# Altium schematic symbol library C210 Rev_B_220601.SCHLIB: 92 symbols (part 2 of 2)
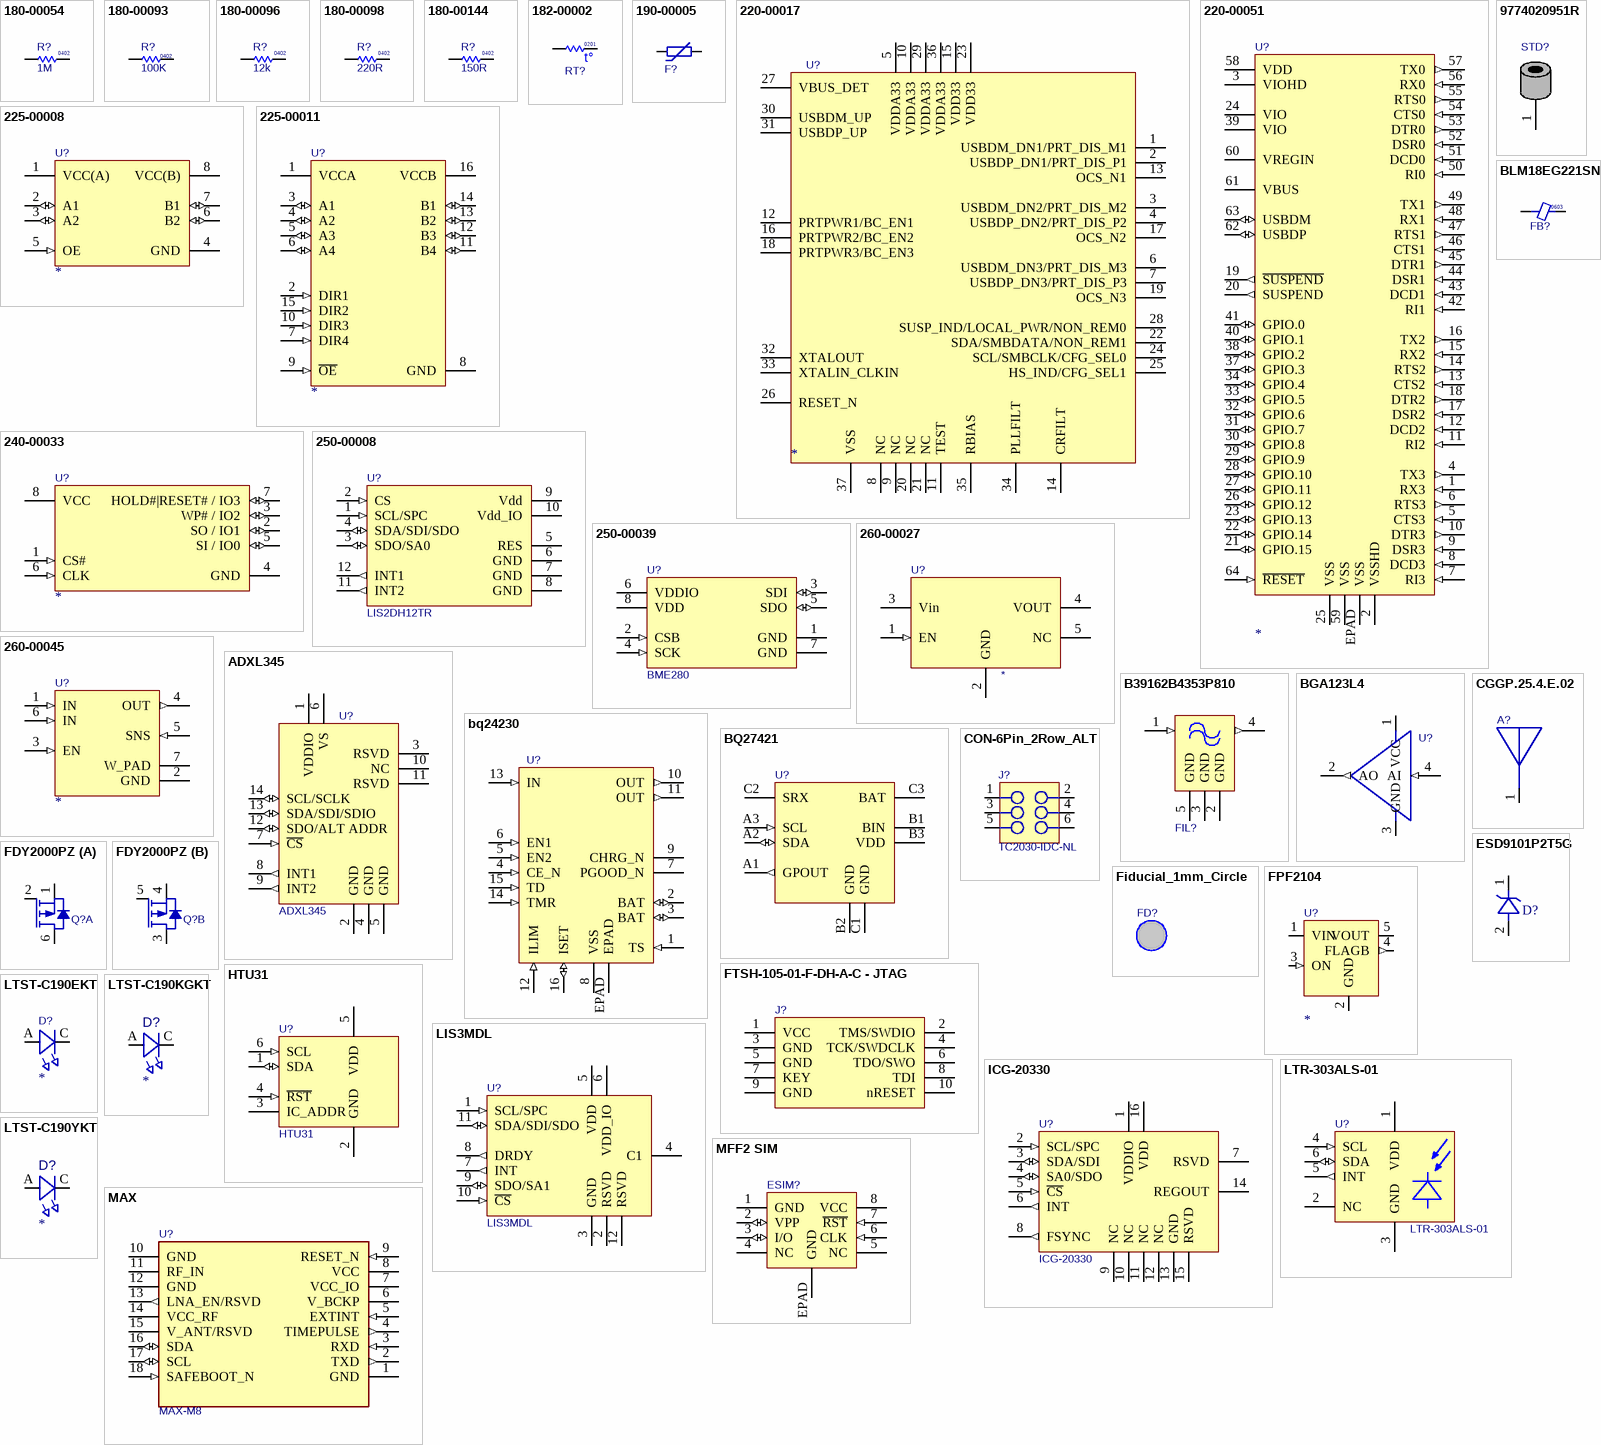
[diagram p3: symbols 180-00054 to MFF2 SIM]

## bq24230
designator U?  (value not drawn)
BAT CHARGER, Li-ION, SMT, USB, PWR PATH, 500mA, 4.4V, 3mmx3mm QFN-16; Manufacturer 1: Texas Instruments; Body Size: 3.3mm x 3.3mm; Item Phase: Unreleased; MFG Package: VQFN-16; SMT Pitch: 0.5mm; Use in new designs: Yes; Voltage: 5-6.5V; UBX Code: None; Part Number: bq24230; Manufacturer Part Number 1: bq24230; Supplier 1: Digi-key; Supplier Part Number 1: 296-23937-2-ND; Height: 1mm; Max Operating Temp: 85; Min Operating Temp: -40; Pins: 16; Revision: None; Size: Other; Manufacturer 2: None; Manufacturer Part Number 2: None; Supplier 2: None; Supplier Part Number 2: None
footprint QFN0.5P3x3-16Pin_W-Pad (Quad Flat No-Lead, 0.5mm Pitch, 16 Contact, Exposed Pad, 3mmX3mm)
pins: 1 TS (in) "ExternalNTCThermistorInput.Connectthe TS inputto the NTCthermistorin the batterypack.TS monitorsa 10-kΩNTCthermistor.For applicationsthat do not utilizethe TS function,connecta 10-kΩfixedresistorfromTS toVSSto maintaina validvoltagelevelon TS.", 2 BAT (io) "ChargerPowerStageOutputand BatteryVoltageSenseInput.ConnectBATto the positiveterminalof thebattery.BypassBATto VSSwith a 4.7-μF to 47-μF ceramiccapacitor.", 3 BAT (io) "ChargerPowerStageOutputand BatteryVoltageSenseInput.ConnectBATto the positiveterminalof thebattery.BypassBATto VSSwith a 4.7-μF to 47-μF ceramiccapacitor.", 4 CE_N (in) "ChargeEnableActive-LowInput.ConnectCE to a high logiclevelto disablebatterycharging.OUTis activeandbatterysupplementmodeis still available.ConnectCE to a low logiclevelto enablethe batterycharger.CE isinternallypulleddownwith ~285kΩ. Do not leaveCE unconnectedto ensureproperoperation.", 5 EN2 (in) "InputCurrentLimitConfigurationInputs.Use EN1and EN2controlthe maximuminputcurrentand enableUSBcompliance.See Table1 for the descriptionof the operationstates.EN1and EN2are internallypulleddownwith~285kΩ. Do not leaveEN1or EN2unconnectedto ensureproperoperation.", 6 EN1 (in) "InputCurrentLimitConfigurationInputs.Use EN1and EN2controlthe maximuminputcurrentand enableUSBcompliance.See Table1 for the descriptionof the operationstates.EN1and EN2are internallypulleddownwith~285kΩ. Do not leaveEN1or EN2unconnectedto ensureproperoperation.", 7 PGOOD_N (oc) "Open-drainPowerGoodStatusIndicationOutput.PGOODpullsto VSSwhena validinputsourceis detected.PGOODis high-impedancewhenthe inputpoweris not withinspecifiedlimits.ConnectPGOODto the desiredlogicvoltagerail usinga 1-kΩ– 100-kΩresistor,or use with an LEDfor visualindication.", 8 VSS (power) "Ground.Connectto the thermalpad and to the groundrail of the circuit.", 9 CHRG_N (oc) "Open-DrainChargingStatusIndicationOutput.CHGpullsto VSSwhenthe batteryis charging.CHGis highimpedancewhenchargingis completeand whenchargeris disabled.", 10 OUT (out) "SystemSupplyOutput.OUTprovidesa regulatedoutputwhenthe inputis belowthe OVPthresholdand abovethe regulationvoltage.Whenthe inputis out of the operationrange,OUTis connectedto VBAT. ConnectOUTtothe systemload.BypassOUTto VSSwith a 4.7-μF to 47-μF ceramiccapacitor.", 11 OUT (out) "SystemSupplyOutput.OUTprovidesa regulatedoutputwhenthe inputis belowthe OVPthresholdand abovethe regulationvoltage.Whenthe inputis out of the operationrange,OUTis connectedto VBAT. ConnectOUTtothe systemload.BypassOUTto VSSwith a 4.7-μF to 47-μF ceramiccapacitor.", 12 ILIM (in) "AdjustableCurrentLimitProgrammingInput.Connecta 3.1-kΩto 7.8-kΩresistorfromILIMto VSSto programthemaximuminputcurrent(EN2=1,EN1=0).The inputcurrentincludesthe systemload and the batterychargecurrent.LeavingILIMunconnecteddisablesall charging.In USB100/500mode(EN2= 0, EN1=0/1),ILIMcan beleft floating.", 13 IN (in) "InputPowerConnection.ConnectIN to the connectedto externalDC supply(AC adapteror USBport).The inputoperatingrangeis 4.35V to 6.6 V. The inputcan acceptvoltagesup to 26 V withoutdamagebut operationissuspended.Connectbypasscapacitor1μF to 10μF to VSS", 14 TMR (in) "TimerProgrammingInput.TMRcontrolsthe prechargeand fast-chargesafetytimers.ConnectTMRto VSStodisableall safetytimers.Connecta 18-kΩto 72-kΩresistorbetweenTMRand VSSto programthe timersadesiredlength.LeaveTMRunconnectedto set the timersto the 5-hourfast chargeand 30-minuteprechargedefaulttimervalues.", 15 TD (in) "TerminationDsableInput.ConnectTD high to disablechargertermination.ConnectTD to VSSto enablechargertermination.TD is checkedduringstart-uponly and cannotbe changedduringoperation.See the TD sectioninthis datasheetfor a descriptionof the behaviorwhenterminationis disabled.TD is internallypulleddownto VSSwith ~285kΩ. Do not leaveTD unconnectedto ensureproperoperation.", 16 ISET (io) "Fast-ChargeCurrentProgrammingInput.Connecta 1.8-kΩto 36-kΩresistorfromISETto VSSto programthefast-chargecurrentlevel.Chargingis disabledif ISETis left unconnected.Whilecharging,the voltageat ISETreflectsthe actualchargingcurrentand can be usedto monitorchargecurrent.See theChargeCurrentTranslatorsectionfor moredetails.", EPAD (power) "SystemSupplyOutput.OUTprovidesa regulatedoutputwhenthe inputis belowthe OVPthresholdand abovethe regulationvoltage.Whenthe inputis out of the operationrange,OUTis connectedto VBAT. ConnectOUTtothe systemload.BypassOUTto VSSwith a 4.7-μF to 47-μF ceramiccapacitor."

## BQ27421
designator U?
IC, SMT, BATTERY GAUGE, INGLE CELL Li-ION, COULOMB COUNTER, DSBGA-9 1.6mmX1.6mm; Part Number: BQ27421; Manufacturer 1: Texas Instruments; Part Name: B39162B4353P810; Body Size: 1.4mm x 1.1mm; Current: None; Item Phase: In Production; MFG Package: QCS5P; Use in new designs: Yes; Manufacturer Part Number 1: BQ27421; Height: 0.45mm; Max Operating Temp: 85; Min Operating Temp: -40; Pins: 5; Revision: 0A; Voltage: N/A; UBX Code: None
footprint BQ27421 (9-DSBGA, 9 pin Texas Instruments BQ27421 Battery Gauge, .5mm pitch, 1.6mmX1.6mm)
pins: A1 GPOUT (out) "General Purpose Open Collector Output", A2 SDA (io) "I2C Data Signal", A3 SCL (in) "I2C Clock Signal", B1 BIN (power) "Battery Insertion Detection Input", B2 GND (power) "Ground", B3 VDD (power) "1.8V LDO Output, Decouple with 1uF, Do Not Connect To External Circuit", C1 GND (power) "Ground", C2 SRX "Current Sense Input Connected to VSYS", C3 BAT (power) "LDO Input and Connection To Battery, Decouple with 1uF"

## CGGP.25.4.E.02
designator A?  (value not drawn)
ANT, THROUGH-HOLE, PATCH, GNSS, BEIDOU, GLONASS, GPS, 5dBi, 25MMx35MMx4MM; Manufacturer 1: Taoglas; Body Size: 25mm x 25mm; Item Phase: Unreleased; MFG Package: Custom; Use in new designs: Yes; UBX Code: None; Part Number: CGGP.25.4.E.02; Manufacturer Part Number 1: CGGP.25.4.E.02; Supplier 1: Digi-key; Supplier Part Number 1: 931-1472-ND; Height: 4mm; Max Operating Temp: 125; Min Operating Temp: -55; Pins: 1; Revision: None; Size: Other; SMT Pitch: N/A; Voltage: N/A; Manufacturer 2: None; Manufacturer Part Number 2: None; Supplier 2: None; Supplier Part Number 2: None
footprint CGGP.25.4.E.02 (Antenna, Patch, Through Hole, Beidou, Glonass, GPS,  5dBi, 25x25x4mm)
pins: 1 "Feed"

## CON-6Pin_2Row_ALT
designator J?, comment Manufacturer P/N: TC2030-IDC-NL  (hidden comment: TC2030-IDC-NLDNP)  (no BOM)
CON PADS FOR CBL PLUG-OF-NAILS 6-PIN NO LEGS; Manufacturer: TAG Connect; Added By: emoo; Part Number: TC2030-IDC-NL; Size: 3.81mm x 7.62mm; Height: 0; DNP: DNP; Added Date: 12/3/2015
footprint TC2030-IDC-NL (CON PADS FOR CBL PLUG-OF-NAILS 6-PIN NO LEGS)
footprint TC2030-IDC-NL No Hole (CON PADS FOR CBL PLUG-OF-NAILS 6-PIN NO LEGS)
pins: 1, 2, 3, 4, 5, 6

## ESD9101P2T5G
designator D?
Diode, TVS, SMT, ESD9101P2T5G, 3.3V, 0.5pF, SOD-923; Manufacturer 1: ON Semiconductor; Part Name: Diode TVS 3.3V SOD-923; Body Size: 0.8mm x 0.6mm; Current: None; Item Phase: In Production; Use in new designs: Yes; Manufacturer Part Number 1: ESD9101P2T5G; Height: 0.4mm; MFG Package: SOD-923; Max Operating Temp: 150; Min Operating Temp: -55; Pins: 2; Revision: 0A; Voltage: 3.3V; UBX Code: None
footprint SOD-923_2 (SOD-923, 2-Leads, Body 1.25x2.50mm, IPC High Density,)
pins: 1, 2

## FDY2000PZ
designator Q?
MOSFET DUAL P-CH 20V SOT-563, -350mA; Part Number: FDY2000PZ; Manufacturer 1: ON Semiconductor; Body Size: 1.6mmx1.6mm; Item Phase: In Production; Transistor Type: Multiple; Thermal Pad: No; Use in new designs: Yes; UBX Code: None; Manufacturer Part Number 1: FDY2000PZ; Supplier 1: Digi-Key; Supplier Part Number 1: 2156-FDY2000PZ-ND; Current: -350mA; Height: 0.6mm; MFG Package: SOT-563; Max Operating Temp: 150; Min Operating Temp: -55; Part Name: MOSFET DUAL P-CH 20V SOT-563; Pins: 6; Revision: 0A; Voltage: 20V; Manufacturer 2: None; Manufacturer Part Number 2: None; Supplier 2: None; Supplier Part Number 2: None
footprint FDY2000PZ (Mosfet Array 2 P-Channel (Dual) 20V 350mA 446mW Surface Mount SOT-563F)
part A pins: 1 S1, 2 G1, 6 D1
part B pins: 3 D2, 4 S2, 5 G2

## Fiducial_1mm_Circle
designator FD?, comment Fiducial_1mmDNP  (value not drawn)  (no BOM)
1mm Fiducial Target; Added By: EMOO; Part Number: Fiducial_1mm; Height: 0; DNP: DNP; Added Date: 12/12/2020
footprint Fiducial 1mm - Circle (1mm Fiducial Mark)

## FPF2104
designator U?
Load Switch, 400mA, 1.8-5.5V, Active High Enable, SOT-23-5; Manufacturer 1: onsemi; Manufacturer Part Number 1: FPF2104; Current: None; Item Phase: In Production; Use in new designs: Yes; Voltage: 5.5V; Manufacturer 2: None; Manufacturer Part Number 2: None; Supplier 2: None; Supplier Part Number 2: None; Body Size: SOT-23-5; Height: 1.2mm; MFG Package: SOT-23-5; Max Operating Temp: 85; Min Operating Temp: -40; Pins: 5; Revision: 0A; UBX Code: None; Manufacturer P/N: *
footprint SOT-23-5_2 (SOT-23-5, 1.625mm x 2.9mm)
pins: 1 VIN (power) "Supply Input: Input to the power switch and the supply voltage for the I", 2 GND (power) "Ground", 3 ON (in) "ON Control Input", 4 FLAGB (out) "Fault Output: Active LO, open drain output which indicates an over current supply,under voltage or over temperature stat", 5 VOUT (power) "Switch Output: Output of the power switch"

## FTSH-105-01-F-DH-A-C - JTAG
designator J?  (value not drawn)
Header 0.05" 10Pin 2Row SMD, RA, Black; Part Name: CON HDR 0.05" 10Pin 2Row RA SMD Black; Part_Type: Connector; Manufacturer: Samtec; Item_Phase: Pre-Production; Component Mounting Type: SMT; Keyed: Yes; Locking: No; Pin Pitch: 0.050"; Rows: 2; Part Number: FTSH-105-01-F-DH-A-C - JTAG; Revision: 1; Manufacturer P/N: FTSH-105-01-F-DH-A-C; Supplier 1: Digi-Key; Supplier Part Number 1: SAM13925TR-ND; Color: Black; Connector Type: Header; Height: 3.96mm; Length: 12.75mm; Pins: 10; Use in new designs: Yes; Width: 6.35
footprint FTSH-105-01-F-DH-A-C (CONN HEADER SMD R/A 10POS 1.27MM)
pins: 1 VCC, 2 TMS/SWDIO, 3 GND, 4 TCK/SWDCLK, 5 GND, 6 TDO/SWO, 7 KEY, 8 TDI, 9 GND, 10 nRESET

## HTU31
designator U?  Manufacturer Part Number 1: HTU31
SENSOR, Humidity, I2C, SMT, DFN-6 2.5mmX2.5mm; Manufacturer 1: TE Connectivity; Part Name: B39162B4353P810; Body Size: 1.4mm x 1.1mm; Current: None; Item Phase: In Production; MFG Package: QCS5P; Use in new designs: Yes; Part Number: HTU31; Height: 0.45mm; Max Operating Temp: 85; Min Operating Temp: -40; Pins: 5; Revision: 0A; Voltage: N/A; UBX Code: None
footprint HTU31 (6-DFN w/ Exposed Pad, 6 pin TE-Connectivity Humidity Sensor, .65mm pitch, 2.5mmX2.5mm)
pins: 1 SDA (io) "I2C Data Signal", 2 GND (power) "Ground", 3 IC_ADDR "Address Selection", 4 ~{RST} (in) "Active Low Reset Input", 5 VDD (power) "Power Supply", 6 SCL (in) "I2C Clock Signal"

## ICG-20330
designator U?  Manufacturer Part Number 1: ICG-20330
SENSOR, Gyroscope, I2C, 3-AXIS, 1.7-3.45V, SMT, LGA-16, 3mmX3mm; Manufacturer 1: TDK InvenSense; Part Name: LIS3MDL; Body Size: 2mm x 2mm; Current: None; Item Phase: In Production; MFG Package: LGA-12; Use in new designs: Yes; Voltage: 1.9-3.6V; Part Number: ICG-20330; Height: 1mm; Max Operating Temp: 85; Min Operating Temp: -40; Pins: 12; Revision: 0A; UBX Code: None
footprint ICG-20330 (LGA 0.5mm Pitch, 3x3, 16 Pin, 3.0mm x 3.0mm)
pins: 1 VDDIO (power) "Digital I/O supply voltage", 2 SCL/SPC (in) "I2C serial clock (SCL); SPI serial clock (SPC)", 3 SDA/SDI (io) "I2C serial data (SDA); SPI serial data input (SDI)", 4 SA0/SDO (io) "I2C slave address LSB (SA0); SPI serial data output (SDO)", 5 ~{CS} (in) "Chip select (0 = SPI mode; 1 = I2C mode)", 6 INT (out) "Interrupt digital output (totem pole or open-drain)", 7 RSVD "Reserved. Do Not Connect.", 8 FSYNC (out) "Synchronization digital input (optional).  Connect to GND if unused.", 9 NC "Connect to GND or do not connect", 10 NC "Connect to GND or do not connect", 11 NC "Connect to GND or do not connect", 12 NC "Connect to GND or do not connect", 13 GND (power) "Connect to GND", 14 REGOUT "Regulator filter capacitor connection", 15 RSVD "Reserved. Connect to GND", 16 VDD (power) "Power Supply"

## LIS3MDL
designator U?  Manufacturer Part Number 1: LIS3MDL
SENSOR, MAGNETOMETER, I2C, 3-AXIS, 1.9-3.6V, SMT, LGA-12, 2mmX2mm; Manufacturer 1: ST Micro; Current: None; Item Phase: In Production; Use in new designs: Yes; Part Number: LIS3MDL; Body Size: 2mm x 2mm; Height: 1mm; MFG Package: LGA-12; Max Operating Temp: 85; Min Operating Temp: -40; Part Name: LIS3MDL; Pins: 12; Revision: 0A; Voltage: 1.9-3.6V; UBX Code: None
footprint LIS3MDL (LGA 0.5mm Pitch, 4x4 w/shared corners, 12 Pin, 2.0mm x 2.0mm)
pins: 1 SCL/SPC (in) "Serial Clock Input", 2 RSVD "Reserved, Connect to Ground", 3 GND (power), 4 C1 "Connect to 100nF capacitor", 5 VDD (power) "Power Supply In", 6 VDD_IO (power) "Power Supply for I/O", 7 INT (out) "Interrupt Output", 8 DRDY (out) "Data Ready Output", 9 SDO/SA1 (io) "SPI serial data output (SDO)I2C less significant bit of the device address (SA1", 10 ~{CS} (in) "Chip Select", 11 SDA/SDI/SDO (io) "Serial Data", 12 RSVD "Reserved, Connect to Ground"

## LTR-303ALS-01
designator U?  Manufacturer Part Number 1: LTR-303ALS-01
SENSOR, AMBIENT LIGHT, I2C, SMT, GNSS, DFN-6 2mmX2mm; Manufacturer 1: Lite-On; Part Name: B39162B4353P810; Body Size: 1.4mm x 1.1mm; Current: None; Item Phase: In Production; MFG Package: QCS5P; Use in new designs: Yes; Part Number: LTR-303ALS-01; Height: 0.45mm; Max Operating Temp: 85; Min Operating Temp: -40; Pins: 5; Revision: 0A; Voltage: N/A; UBX Code: None
footprint LTR-303ALS-01 (6-VFDFN, 6 pin Lite-ON Light Sensor, .65mm pitch, 2mmX2mm)
pins: 1 VDD (power) "Power Supply", 2 NC "No Connection", 3 GND (power) "Ground", 4 SCL (in) "I2C Clock Signal", 5 INT (out) "Open Drain Interrupt Output", 6 SDA (io) "I2C Data Signal"

## LTST-C190EKT
designator D?
DIODE, LED, SMT, Red, CLEAR LENS, 2.0V 10mA, 0603; Part Number: LTST-C190EKT; Manufacturer 1: Lite-On Inc; Part Name: LED Red SMT 0603; Body Size: 1.60mm x 0.80mm; Item Phase: In Production; MFG Package: None; Use in new designs: Yes; Manufacturer Part Number 1: LTST-C190EKT; Supplier 1: Digi-Key; Supplier Part Number 1: 160-1182-2-ND; Current: 10mA; Height: 0.80mm; Max Operating Temp: 85; Min Operating Temp: -30; Pins: 2; Revision: 0A; Size: 0603; Voltage: 2.0V; UBX Code: None; Manufacturer 2: None; Manufacturer Part Number 2: None; Supplier 2: None; Supplier Part Number 2: None; Color: *
footprint LTST-C190EKT (Red 621nm LED Indication - Discrete 2V 0603 (1608 Metric))
pins: A Anode, C Cathode

## LTST-C190KGKT
designator D?
DIODE, LED, SMT, GREEN, CLEAR LENS, 2.0V 20mA, 0603; Part Number: 115-00019; Manufacturer 1: Lite-On Inc; Manufacturer Part Number 1: LTST-C190KGKT; Part Name: LED Green SMT 0603; Body Size: 1.60mm x 0.80mm; Item Phase: In Production; MFG Package: None; Use in new designs: Yes; Supplier 1: Digi-Key; Supplier Part Number 1: 160-1435-2-ND; Current: 20mA; Height: 0.80mm; Max Operating Temp: 85; Min Operating Temp: -30; Pins: 2; Revision: 0A; Size: 0603; Voltage: 2.0V; UBX Code: None; Manufacturer 2: None; Manufacturer Part Number 2: None; Supplier 2: None; Supplier Part Number 2: None; Color: *
footprint LTST-C190KGKT (Green 571nm LED Indication - Discrete 2V 0603 (1608 Metric))
pins: A Anode, C Cathode

## LTST-C190YKT
designator D?
DIODE, LED, SMT, YELLOW, CLEAR LENS, 2.1V 10mA, 0603; Part Number: LTST-C190YKT; Manufacturer 1: Lite-On Inc; Part Name: LED Yellow SMT 0603; Body Size: 1.60mm x 0.80mm; Item Phase: In Production; MFG Package: None; Use in new designs: Yes; Manufacturer Part Number 1: LTST-C190YKT; Supplier 1: Digi-Key; Supplier Part Number 1: 160-1184-2-ND; Current: 10mA; Height: 0.80mm; Max Operating Temp: 85; Min Operating Temp: -30; Pins: 2; Revision: 0A; Size: 0603; Voltage: 2.1V; UBX Code: None; Manufacturer 2: None; Manufacturer Part Number 2: None; Supplier 2: None; Supplier Part Number 2: None; Color: *
footprint LTST-C190YKT (Yellow 588nm LED Indication - Discrete 2.1V 0603 (1608 Metric))
pins: A Anode, C Cathode

## MAX
designator U?, comment MAX-M8
u-blox MAX GNSS module; Part Description: u-blox GNSS module; Manufacturer: u-blox; Value: MAX-M8
footprint MAX-M8 (u-blox M8 concurrent GNSS modules)
pins: 1 GND (power) "Ground", 2 TXD (out) "Serial Port", 3 RXD (in) "Serial Port", 4 TIMEPULSE (out) "Time Pulse (1PPS)", 5 EXTINT (in) "External Interrupt Input", 6 V_BCKP (power) "Backup Voltage Supply", 7 VCC_IO (power) "I/O Supply Voltage", 8 VCC (power) "Supply Voltage", 9 RESET_N (in), 10 GND (power) "Ground", 11 RF_IN "GNSS Signal Input", 12 GND (power) "Ground", 13 LNA_EN/RSVD (out) "External LNA/Antenna Supply Output", 14 VCC_RF (power) "Output Voltage RF Section", 15 V_ANT/RSVD, 16 SDA (io) "DDC Serial Data", 17 SCL (io) "DDC Serial Clock", 18 SAFEBOOT_N (in)

## MFF2 SIM
designator ESIM?
ESIM, SMT, MFF2, 1.8V, SMT, VFDFPN8, 5mmX6mm; Part Number: MFF2 SIM; Manufacturer 1: Generic; Current: None; Item Phase: In Production; Use in new designs: Yes; Manufacturer Part Number 1: ESIM; Body Size: 5mm x 6mm; Height: 1mm; MFG Package: VFDFPN8; Max Operating Temp: 85; Min Operating Temp: -40; Part Name: ESIM; Pins: 12; Revision: 0A; Voltage: 1.8V; UBX Code: None
footprint MFF2 SIM (MFF2 - DFN-8 1.27mm Pitch, 8 Pin w/ EPAD, 5.0mm x 6.0mm)
pins: 1 GND (power) "Ground", 2 VPP (io) "Programming Voltage/Not Used/Input Pull-Up", 3 I/O (io) "Pull-down then pull-up after card activatio", 4 NC "Ground", 5 NC "Ground", 6 CLK (in) "Pull-down", 7 ~{RST} (in) "Input pull-down", 8 VCC (power) "Input Power Supply", EPAD GND "Ground"

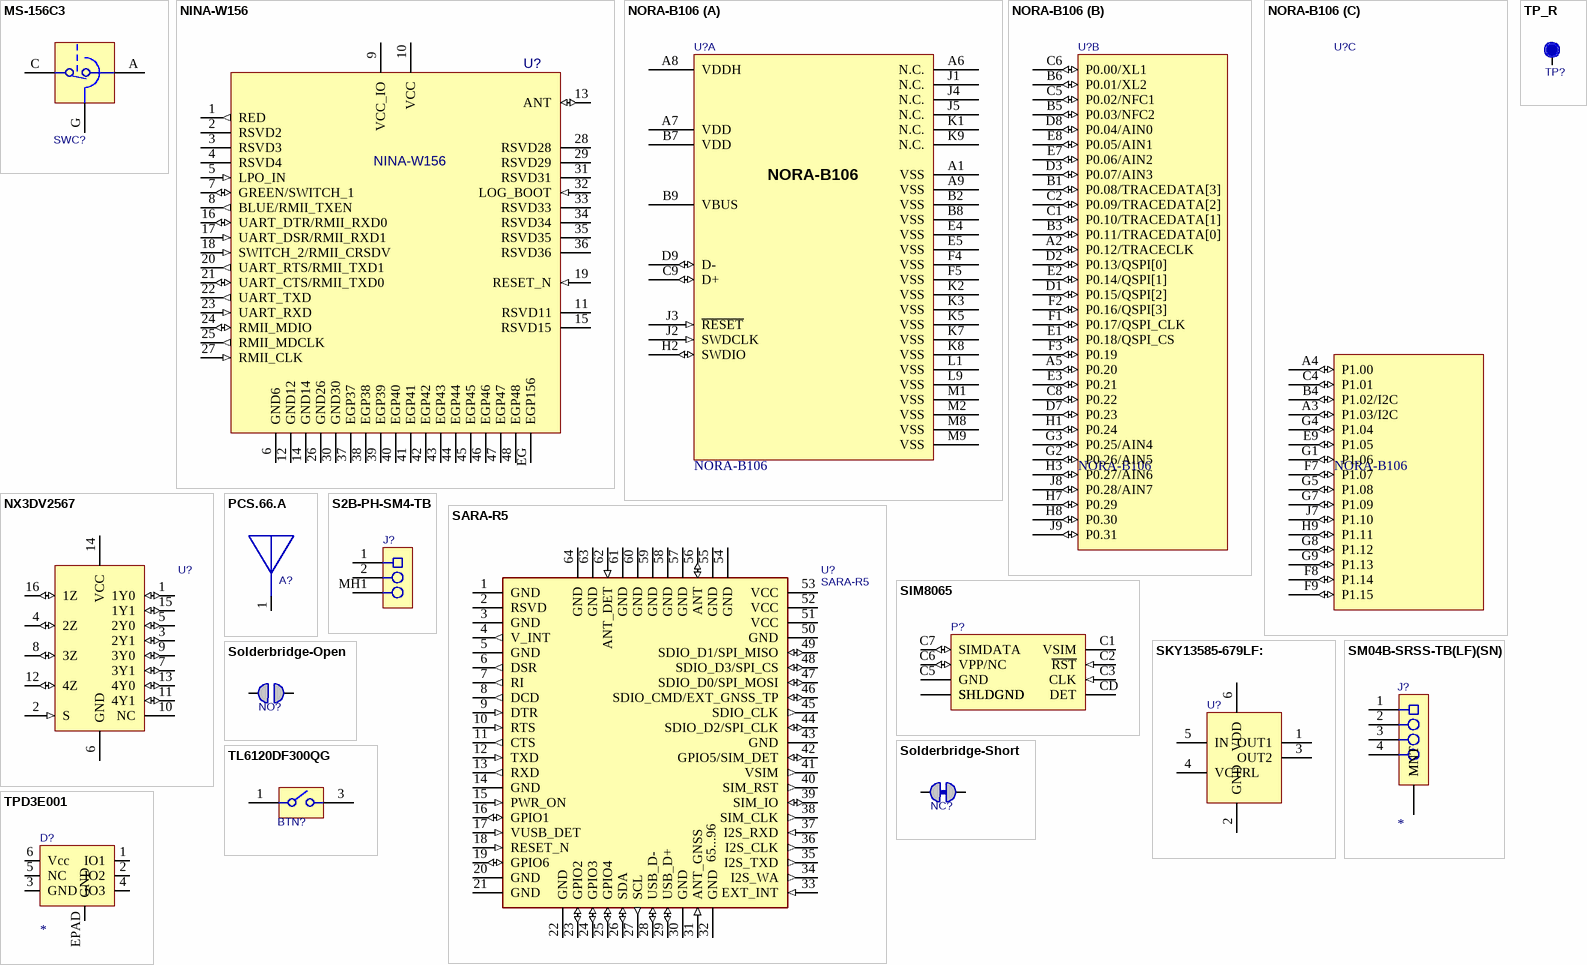
[diagram p2: symbols MS-156C3 to TPD3E001]

## MS-156C3
designator SWC?
Conn, Coax, Test, Switch, 50Ohm, SMT, 2.5mmX2.4mm; Part Number: MS-156C3; Manufacturer 1: Hirose; Part Name: CON HDR 0.1" 3 Pin 1 Row SMT R/A; Item Phase: In Production; Use in new designs: Yes; Voltage: None; Manufacturer Part Number 1: MS-156C3; Supplier 1: None; Supplier Part Number 1: None; Diameter: None; Height: 3.05mm; Max Operating Temp: None; Min Operating Temp: None; Pins: 3; Revision: 0A; UBX Code: None; Manufacturer 2: None; Manufacturer Part Number 2: None; Supplier 2: None; Supplier Part Number 2: None; Manufacturer P/N: *
footprint MS-156C3 (Connector, Coax, Switch, Test, SMT, 2.5mmX2.4mm)
pins: A, C, G

## NINA-W156
designator U?
u-blox NINA-W156 WiFi, Bluetooth dual-mode module; Part Description: Stand-alone Bluetooth low energy module; Manufacturer: u-blox; Value: NINA-W156
footprint NINA_LGA48R_1400X1000X223_PCB (Stand-alone Bluetooth low energy module)
pins: 1 RED (out), 2 RSVD2, 3 RSVD3, 4 RSVD4, 5 LPO_IN (in), 6 GND6 (power), 7 GREEN/SWITCH_1 (io), 8 BLUE/RMII_TXEN (out), 9 VCC_IO (power), 10 VCC (power), 11 RSVD11, 12 GND12 (power), 13 ANT (io), 14 GND14 (power), 15 RSVD15, 16 UART_DTR/RMII_RXD0 (io), 17 UART_DSR/RMII_RXD1 (in), 18 SWITCH_2/RMII_CRSDV (in), 19 RESET_N (in), 20 UART_RTS/RMII_TXD1 (out), 21 UART_CTS/RMII_TXD0 (io), 22 UART_TXD (out), 23 UART_RXD (in), 24 RMII_MDIO (io), 25 RMII_MDCLK (out), 26 GND26 (power), 27 RMII_CLK (in), 28 RSVD28, 29 RSVD29, 30 GND30 (power), 31 RSVD31, 32 LOG_BOOT (in), 33 RSVD33, 34 RSVD34, 35 RSVD35, 36 RSVD36, 37 EGP37 (power), 38 EGP38 (power), 39 EGP39 (power), 40 EGP40 (power), 41 EGP41 (power), 42 EGP42 (power), 43 EGP43 (power), 44 EGP44 (power), 45 EGP45 (power), 46 EGP46 (power), 47 EGP47 (power), 48 EGP48 (power), EG EGP156 (power)

## NORA-B106
designator U?
u-blox NORA-B106 Bluetooth 5.2 LE module - dual core; Manufacturer P/N: NORA-B106-00B; Part Description: Stand-alone Bluetooth low energy module - dual core; Body Size: 14.3 mm x 10.4 mm; Part Number: NORA-B106; Part Name: NORA-B106; Part_Type: Module; Manufacturer: u-blox; Height: 1.8 mm; Value: NORA-B106
footprint NORA_LGA82R_1430X1040X180_ANT (NORA LGA, 82pin ,1.1mm Pitch, 14.3mm x 10.4mm)
part A pins: A1 VSS (power), A6 N.C. (hiz), A7 VDD (power), A8 VDDH (power), A9 VSS (power), B2 VSS (power), B7 VDD (power), B8 VSS (power), B9 VBUS (power), C9 D+ (io), D9 D- (io), E4 VSS (power), E5 VSS (power), F4 VSS (power), F5 VSS (power), H2 SWDIO (io), J1 N.C. (hiz), J2 SWDCLK (in), J3 ~{RESET} (in), J4 N.C. (hiz), J5 N.C. (hiz), K1 N.C. (hiz), K2 VSS (power), K3 VSS (power), K5 VSS (power), K7 VSS (power), K8 VSS (power), K9 N.C. (hiz), L1 VSS (power), L9 VSS (power), M1 VSS (power), M2 VSS (power), M8 VSS (power), M9 VSS (power)
part B pins: A2 P0.12/TRACECLK (io), A5 P0.20 (io), B1 P0.08/TRACEDATA[3] (io), B3 P0.11/TRACEDATA[0] (io), B5 P0.03/NFC2 (io), B6 P0.01/XL2 (io), C1 P0.10/TRACEDATA[1] (io), C2 P0.09/TRACEDATA[2] (io), C5 P0.02/NFC1 (io), C6 P0.00/XL1 (io), C8 P0.22 (io), D1 P0.15/QSPI[2] (io), D2 P0.13/QSPI[0] (io), D3 P0.07/AIN3 (io), D7 P0.23 (io), D8 P0.04/AIN0 (io), E1 P0.18/QSPI_CS (io), E2 P0.14/QSPI[1] (io), E3 P0.21 (io), E7 P0.06/AIN2 (io), E8 P0.05/AIN1 (io), F1 P0.17/QSPI_CLK (io), F2 P0.16/QSPI[3] (io), F3 P0.19 (io), G2 P0.26/AIN5 (io), G3 P0.25/AIN4 (io), H1 P0.24 (io), H3 P0.27/AIN6 (io), H7 P0.29 (io), H8 P0.30 (io), J8 P0.28/AIN7 (io), J9 P0.31 (io)
part C pins: A3 P1.03/I2C (io), A4 P1.00 (io), B4 P1.02/I2C (io), C4 P1.01 (io), E9 P1.05 (io), F7 P1.07 (io), F8 P1.14 (io), F9 P1.15 (io), G1 P1.06 (io), G4 P1.04 (io), G5 P1.08 (io), G7 P1.09 (io), G8 P1.12 (io), G9 P1.13 (io), H9 P1.11 (io), J7 P1.10 (io)

## NX3DV2567
designator U?
IC, ANLG SWITCH, 4PDT, SIM OPTIMIZED, 1.4V-4.3V, SMT, XQFN-16, 2.6mmX1.8mm; Part Number: NX3DV2567; Manufacturer 1: NXP USA Inc.; Manufacturer Part Number 1: NX3DV2567GU,115; Current: None; Item Phase: In Production; Use in new designs: Yes; Body Size: 2.6mm x 1.8mm; Height: 1mm; MFG Package: XQFN-16; Max Operating Temp: 85; Min Operating Temp: -40; Part Name: NX3DV2567GU,115; Pins: 16; Revision: 0A; Voltage: 1.4V-4.3V; UBX Code: None
footprint XQFN-16 (XQFN-16 0.4mm Pitch, 16 Pin, 2.6mm x 1.8mm)
pins: 1 1Y0 (io) "independent input or output (supply switch)", 2 S (in) "Control Input", 3 2Y1 (io) "independent input or output (data switch)", 4 2Z (io) "common output or input (data switch)", 5 2Y0 (io) "independent input or output (data switch)", 6 GND (power) "Ground", 7 3Y1 (io) "independent input or output (data switch)", 8 3Z (io) "common output or input (data switch)", 9 3Y0 (io) "independent input or output (data switch)", 10 NC "No Connect", 11 4Y1 (io) "independent input or output (data switch)", 12 4Z (io) "common output or input (data switch)", 13 4Y0 (io) "independent input or output (data switch)", 14 VCC (power) "Power Supply", 15 1Y1 (io) "independent input or output (supply switch)", 16 1Z (io) "common output or input (supply switch)"

## PCS.66.A
designator A?  (value not drawn)
RF Passive, Antenna, LTE, 600-6000MHz, Monopole; Manufacturer 1: Taoglas; Body Size: 33mm x 25mm; Item Phase: Unreleased; MFG Package: Custom; RF Freq: 698-2700 MHz; SMT Pitch: None; Use in new designs: Yes; Part Number: PCS.66.A; Manufacturer Part Number 1: PCS.66.A; Height: 1.6mm; Max Operating Temp: 85; Min Operating Temp: -40; Pins: 5; Revision: None; Size: Other; Voltage: None; UBX Code: None; Manufacturer 2: None; Manufacturer Part Number 2: None; Supplier 2: None; Supplier Part Number 2: None
footprint PCS_66_A
pins: 1 "Feed"

## S2B-PH-SM4-TB
designator J?
Conn, SMT, 0.079" Pitch, 2 Pin, R/A, Black; Part Number: S2B-PH-SM4-TB; Item Phase: In Production; Use in new designs: Yes; Voltage: None; Manufacturer Part Number 1: S2B-PH-SM4-TB; Supplier 1: None; Supplier Part Number 1: None; Diameter: None; Height: 5.5mm; Max Operating Temp: None; Min Operating Temp: None; Part Name: Conn, SMT, 0.079" Pitch, 2 Pin, R/A, Black; Pins: 2; Revision: 0A; UBX Code: None; Manufacturer 2: None; Manufacturer Part Number 2: None; Supplier 2: None; Supplier Part Number 2: None; Manufacturer P/N: *
footprint S2B-PH-SM4-TB (Connector Header Surface Mount, Right Angle 2 position 0.079" (2.00mm))
pins: 1, 2, MH1

## SARA-R5
designator U?
GSM/GPRS and GSM/EGPRS/HSPA Cellular Module; Manufacturer: u-blox; Part Description: GSM/EGPRS/HSPA module; Value: SARA-R5
footprint SARA-XX (GSM/GPRS and GSM/EGPRS/HSPA   Cellular Module)
pins: 1 GND (power) "Ground", 2 RSVD "Reserved pin, Leave un-connected", 3 GND (power) "Ground", 4 V_INT (out) "Generic Digital Interfaces supply output", 5 GND (power) "Ground", 6 DSR (out) "UART data set ready/AUX UART request to send", 7 RI (out) "UART ring indicator / AUX UART clear to send", 8 DCD (out) "UART data carrier detect / AUX UART Output", 9 DTR (in) "UART Data Terminal Ready / AUX Uart data input", 10 RTS (in) "UART request to send", 11 CTS (out) "UART clear to send", 12 TXD (in) "UART data input", 13 RXD (out) "UART data output", 14 GND (power) "Ground", 15 PWR_ON (in) "Power on input, internal active pull-up", 16 GPIO1 (io) "Configurable GPIO", 17 VUSB_DET (in) "USB detect input", 18 RESET_N (in) "External reset input, internal active pull-up", 19 GPIO6 (io) "GPIO / Time pulse output", 20 GND (power) "Ground", 21 GND (power) "Ground", 22 GND (power) "Ground", 23 GPIO2 (io) "Configurable GPIO", 24 GPIO3 (io) "Configurable GPIO", 25 GPIO4 (io) "Configurable GPIO / External GNSS timestamp of external input", 26 SDA (io) "I2C bus data line", 27 SCL (out) "I2C bus clock line", 28 USB_D- (io) "USB data line D-", 29 USB_D+ (io) "USB data line D+", 30 GND (power) "Ground", 31 ANT_GNSS (in) "GNSS Antenna input", 32 GND (power) "Ground", 33 EXT_INT (in) "External input", 34 I2S_WA (out) "I2S word alignment / pin for dynamic tuning", 35 I2S_TXD (out) "I2S transmit data / pin for dynamic tuning", 36 I2S_CLK (out) "I2S Clock output", 37 I2S_RXD (in) "I2S receive data", 38 SIM_CLK (out) "SIM clock", 39 SIM_IO (io) "SIM bidirectional data", 40 SIM_RST (out) "SIM reset", 41 VSIM (out) "SIM supply output", 42 GPIO5/SIM_DET (io) "Configurable GPIO / SIM detect input", 43 GND (power) "Ground", 44 SDIO_D2/SPI_CLK (io) "SDIO Data 2 /  SPI clock output", 45 SDIO_CLK (out) "SDIO clock", 46 SDIO_CMD/EXT_GNSS_TP (io) "SDIO command / external GNSS time pulse input", 47 SDIO_D0/SPI_MOSI (io) "SDIO serial data 0 / SPI MOSI", 48 SDIO_D3/SPI_CS (io) "SDIO serial data 3 / SPI chip select (active low)", 49 SDIO_D1/SPI_MISO (io) "SDIO serial data 1 / SPI MISO", 50 GND (power) "Ground", 51 VCC (power) "Module supply input", 52 VCC (power) "Module supply input", 53 VCC (power) "Module supply input", 54 GND (power) "Ground", 55 GND (power) "Ground", 56 ANT (io) "Cellular antenna", 57 GND (power) "Ground", 58 GND (power) "Ground", 59 GND (power) "Ground", 60 GND (power) "Ground", 61 GND (power) "Ground", 62 ANT_DET (in) "Antenna detection", 63 GND (power) "Ground", 64 GND (power) "Ground", 65 GND, 66 GND, 67 GND, 68 GND, 69 GND, 70 GND, 71 GND, 72 GND, 73 GND, 74 GND, 75 GND, 76 GND, 77 GND, 78 GND, 79 GND, 80 GND, 81 GND, 82 GND, 83 GND, 84 GND, 85 GND, 86 GND, 87 GND, 88 GND, 89 GND, 90 GND, 91 GND, 92 GND, 93 GND, 94 GND, 95 GND, 96 GND
text: 65...96

## SIM8065
designator P?
NANO SIM SOCKET, SWITCH, SMT, PUSH-PUSH, 13mmX14mm; Part Number: SIM8065; Manufacturer 1: GCT; Manufacturer Part Number 1: SIM8065-6-1-14-01-A; Current: 1A; Item Phase: In Production; MFG Package: Custom; Use in new designs: Yes; Voltage: 30V; UBX Code: None; Body Size: 13mm x 14mm; Height: 1.25mm; Max Operating Temp: 85; Min Operating Temp: -40; Part Name: SIM8065; Pins: 11; Revision: 0A
footprint SIM6065-6-1-14-01-A (NANO SIM Socket - Switch, 11 Pin, 13mm x 14mm)
pins: C1 VSIM (power) "Input Power Supply", C2 ~{RST} (in) "Input pull-down", C3 CLK (in) "Pull-down", C5 GND (power) "Ground", C6 VPP/NC (io) "Programming Voltage/Not Used/Input Pull-Up", C7 SIMDATA (io) "Pull-down then pull-up after card activatio", CD DET "Card Detect (GND when NOT Present)", G1 SHLDGND (power) "Ground", G2 SHLDGND (power) "Ground", G3 SHLDGND (power) "Ground", G4 SHLDGND (power) "Ground"

## SKY13585-679LF:
designator U?
RF SWITCH, SPDT, I2C, 3-AXIS, 3-5V, 1-6GHz, SMT, DFN-6, 1mmX1mm; Part Number: SKY13585-679LF:; Manufacturer 1: ST Micro; Part Name: LIS3MDL; Body Size: 2mm x 2mm; Current: None; Item Phase: In Production; MFG Package: LGA-12; Use in new designs: Yes; Voltage: 1.9-3.6V; Manufacturer Part Number 1: SKY13585-679LF:; Height: 1mm; Max Operating Temp: 85; Min Operating Temp: -40; Pins: 12; Revision: 0A; UBX Code: None
footprint SKY13585-679LF (LGA 0.35mm Pitch, DFN-6 w/pad 2 underpad, 6 Pin, 1.0mm x 1.0mm)
pins: 1 OUT1 "RF Port", 2 GND (power), 3 OUT2 "RF Port", 4 VCTRL (power) "DC Control Voltage", 5 IN "RF Port", 6 VDD (power) "DC Supply Voltage"

## SM04B-SRSS-TB(LF)(SN)
designator J?
Conn, Header, SMD, 1mm Pitch, 4 Pin, R/A, White; Part Number: SM04B-SRSS-TB(LF)(SN); Manufacturer 1: JST Sales America Inc.; Part Name: CONN HEADER SMD R/A 4POS 1MM; Item Phase: In Production; Use in new designs: Yes; Voltage: None; Manufacturer Part Number 1: SM04B-SRSS-TB(LF)(SN); Supplier 1: None; Supplier Part Number 1: None; Diameter: None; Height: 2.9mm; Max Operating Temp: None; Min Operating Temp: None; Pins: 4; Revision: 0A; UBX Code: None; Manufacturer 2: None; Manufacturer Part Number 2: None; Supplier 2: None; Supplier Part Number 2: None; Manufacturer P/N: *
footprint SM04B-SRSS-TB(LF)(SN) (CONN HEADER SMD R/A 4POS 1MM)
pins: 1, 2, 3, 4, M1 MNT, M2 MNT

## Solderbridge-Open
designator NO?, comment Solderbridge-OpenDNP  (value not drawn)  (no BOM)
Solderbridge-Open; Added By: Paul B; Part Number: Solderbridge-Open; Height: 0; DNP: DNP; Added Date: 12/2/2015
footprint Solderbridge-Open
pins: 1, 2

## Solderbridge-Short
designator NC?, comment Solderbridge-ShortDNP  (value not drawn)  (net tie, no BOM)
Solderbridge-Short; Added By: Paul B; Part Number: Solderbridge-Short; Height: 0; DNP: DNP; Added Date: 12/2/2015
footprint Solderbridge-Short
pins: 1, 2

## TL6120DF300QG
designator BTN?
Button, Tactile, SPST, NO, SMT, Vert; Part Number: TL6120DF300QG; Manufacturer 1: E-Switch; Part Name: CON HDR 0.1" 3 Pin 1 Row SMT R/A; Item Phase: In Production; Use in new designs: Yes; Voltage: None; Manufacturer Part Number 1: TL6120DF300QG; Supplier 1: None; Supplier Part Number 1: None; Diameter: None; Height: 3.05mm; Max Operating Temp: None; Min Operating Temp: None; Pins: 3; Revision: 0A; UBX Code: None; Manufacturer 2: None; Manufacturer Part Number 2: None; Supplier 2: None; Supplier Part Number 2: None; Manufacturer P/N: *
footprint TL6120DF300QG (Button, Tactile, SPST, NO, Surface Mount)
pins: 1, 2, 3, 4

## TP_R
designator TP?, comment TP  (value not drawn)  (no BOM)
Testpoint, Round 1.0mm Dia; Part Number: TP10R; Added By: Jeremy D; Size: 1.0mm; Height: 0; DNP: DNP; Added Date: 2/1/2015; Checked By: Paul B; Checked Date: 2/5/2015
footprint TP12R (Testpoint, Round 1.2mm Dia)
pins: 1

## TPD3E001
designator D?
TVS Diode, ESD High Speed 3-Channel Array, WSON-6, 3mmX3mm; Manufacturer 1: Texas Instruments; Manufacturer Part Number 1: TPD3E001DRSR; Part Name: Diode TVS 5V 3CH WSON-6; Current: None; Item Phase: In Production; MFG Package: WSON-6, DRS (S-PWSON-N6); Use in new designs: Yes; Voltage: 5.5V; Manufacturer 2: None; Manufacturer Part Number 2: None; Supplier 2: None; Supplier Part Number 2: None; Body Size: 3mm x 3mm; Height: 0.80mm; Max Operating Temp: 85; Min Operating Temp: -40; Pins: 6; Revision: 0A; UBX Code: None; Manufacturer P/N: *
footprint TPD3E001DRSR (TI DSR Package - WSON-6 0.95mm Pitch, 6 Pin w/ EPAD, 3.0mm x 3.0mm)
pins: 1 IO1, 2 IO2, 3 GND (power), 4 IO3, 5 NC, 6 Vcc (power), EPAD GND (power)